# Altium footprint library B3U3000PMB.PcbLib: 1 footprints
Each footprint in its own frame and in the unit in brackets; x right, y up, seen from the top. Pads: shape width x height; smd on the part's side, far side on the other; paste and mask are expansions set on the pad; w line width, h text height; cw(c..) or ccw(c..) is an arc to the next point about the centre after c.
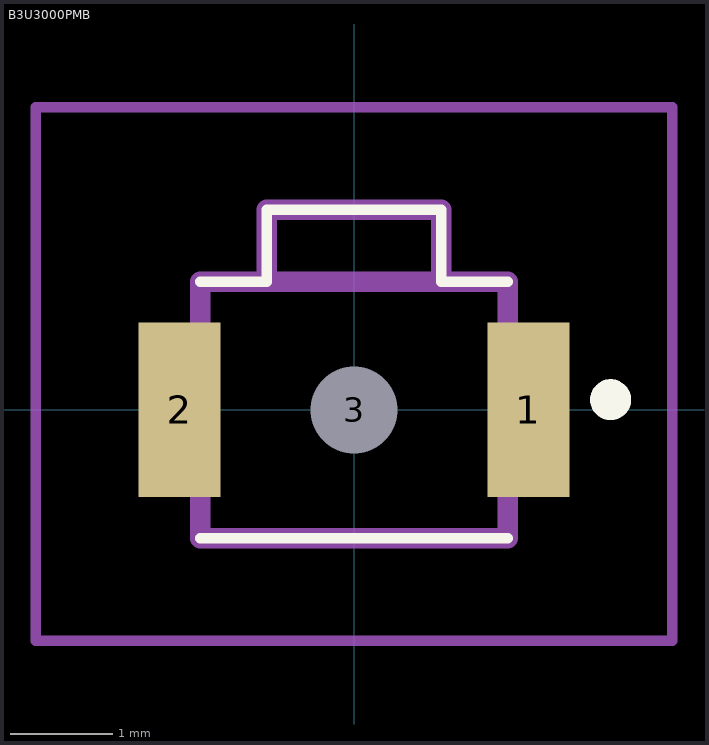
[diagram p0: the footprint, top view; thin cyan lines are the x and y axes]

## B3U3000PMB [mm]
pads (3):
  rect 0.8x1.7 smd: 1(1.7,0) 2(-1.7,0)
  round 0.425 hole 0.85 unplated: 3(0,0)
Top Overlay:
  lines w0.1: -1.5,-1.25 1.5,-1.25 ; -1.5,1.25 -1,1.25 -0.85,1.25 -0.85,1.95 0.85,1.95 0.85,1.25 1.5,1.25
  lines w0.2: 2.5,0 cw(c2.5,0.1) 2.5,0.2 cw(c2.5,0.1) 2.5,0
Top Component Outline:
  lines w0.2: -0.85,1.25 -0.85,1.95 0.85,1.95 0.85,1.25 ; -1.5,-1.25 1.5,-1.25 1.5,1.25 -1.5,1.25 -1.5,-1.25
Top Assembly:
  lines w0.1: -3.1,-2.25 3.1,-2.25 3.1,2.95 -3.1,2.95 -3.1,-2.25